# Altium schematic symbol library GT_Schlib1.SchLib: 2 symbols
Pins are listed as number, name and electrical type; pins without a type are passive.

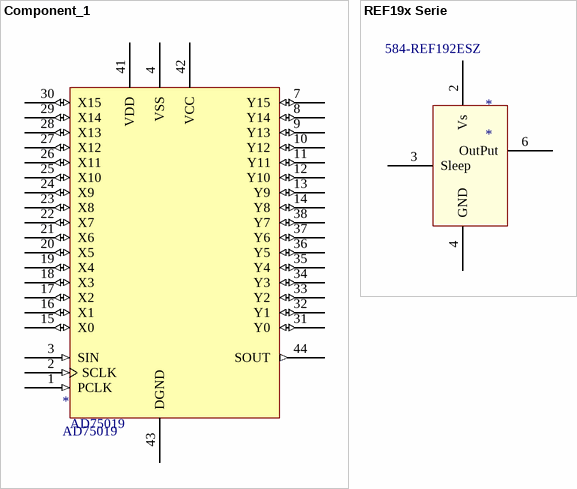
[diagram p0: symbols Component_1 to REF19x Serie]

## Component_1
designator *, comment AD75019
crosspoint 16x16
footprint PLCC-44 (PLCC; 44 Leads; Body 16.5 x 16.5 mm)
pins: 1 PCLK (in), 2 SCLK (in), 3 SIN (in), 4 VSS (power) "Analogue neg", 5 NC1 hidden, 6 NC2 hidden, 7 Y15 (io), 8 Y14 (io), 9 Y13 (io), 10 Y12 (io), 11 Y11 (io), 12 Y10 (io), 13 Y9 (io), 14 Y8 (io), 15 X0 (io), 16 X1 (io), 17 X2 (io), 18 X3 (io), 19 X4 (io), 20 X5 (io), 21 X6 (io), 22 X7 (io), 23 X8 (io), 24 X9 (io), 25 X10 (io), 26 X11 (io), 27 X12 (io), 28 X13 (io), 29 X14 (io), 30 X15 (io), 31 Y0 (io), 32 Y1 (io), 33 Y2 (io), 34 Y3 (io), 35 Y4 (io), 36 Y5 (io), 37 Y6 (io), 38 Y7 (io), 39 NC3 hidden, 40 NC4 hidden, 41 VDD (power) "Analogue pos", 42 VCC (power) "Digital power", 43 DGND (power), 44 SOUT (out)

## REF19x Serie
designator *  Supplier Part Number 1: 584-REF192ESZ
Supplier 1: Mouser
footprint S-DIP-B8 (Shrink DIP; 8 Stub Leads; Row Spacing 2.28 mm; Pitch 0.5 mm)
pins: 1 TP hidden, 2 Vs (power), 3 Sleep, 4 GND (power), 5 TP hidden, 6 OutPut, 7 NC hidden, 8 NC hidden